# Altium schematic symbol library ATmega328P.SchLib: 1 symbol
Pins are listed as number, name and electrical type; pins without a type are passive.

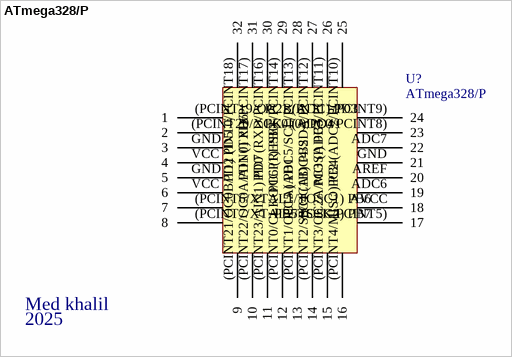
[diagram p0: symbol ATmega328/P]

## ATmega328/P
designator U?  Year :: 2025  Created By: Med khalil
The Atmel® picoPower® ATmega328/P is a low-power CMOS 8-bit / microcontroller based on the AVR® enhanced RISC architecture. By / executing powerful instructions in a single clock cycle, the ATmega328/P / achieves throughputs close to 1MIPS per MHz.; ComponentLink1Description: Datasheet; ComponentLink1URL: https://datasheet.octopart.com/ATMEGA328-AU-Microchip-datasheet-65729177.pdf
footprint TQFP80P900X900X120-32N (TQFP, 32-Leads, Body 7.00x7.00mm, Pitch 0.80mm, IPC Medium Density)
pins:  (PCINT0/CLKO/ICP1) PB0 12,  (PCINT1/OC1A) PB1 13,  (PCINT2/SS/OC1B) PB2 14,  (PCINT3/OC2A/MOSI) PB3 15,  (PCINT4/MISO) PB4 16,  (PCINT6/XTAL1/TOSC1) PB6 7,  (PCINT7/XTAL2/TOSC2) PB7 8,  (PCINT19/OC2B/INT1) PD3 1,  (PCINT21/OC0B/T1) PD5 9,  (PCINT22/OC0A/AIN0) PD6 10,  (PCINT23/AIN1) PD7 11,  PC0 (ADC0/PCINT8) 23,  PC2 (ADC2/PCINT10) 25,  PC3 (ADC3/PCINT11) 26,  PC4 (ADC4/SDA/PCINT12) 27,  PC5 (ADC5/SCL/PCINT13) 28,  PD0 (RXD/PCINT16) 30,  PD1 (TXD/PCINT17) 31,  PD2 (INT0/PCINT18) 32, (PCINT20/XCK/T0) PD4 2, ADC6 19, ADC7 22, AREF 20, AVCC 18, GND 5, GND 21, GND 3, PB5 (SCK/PCINT5) 17, PC1 (ADC1/PCINT9) 24, PC6 (RESET/PCINT14) 29, VCC 6, VCC 4